# EAGLE library part TLE7250 (library can)
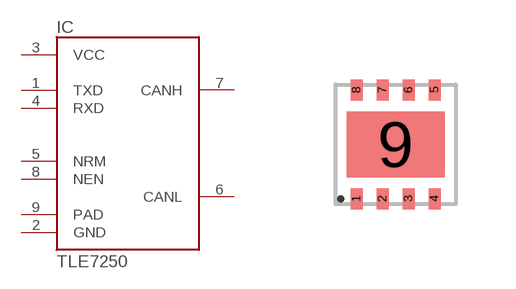
[diagram p2: symbol with the pads of TSON-8; footprint TSON-8]

Designator prefix IC

## TLE7250LE  [TSON-8]
1  TXD
2  GND
3  VCC  in
4  RXD  out
5  NRM
6  CANL
7  CANH
8  NEN  in
9  PAD

## Footprint TSON-8 (pad centres in mm)
smd 0.3 x 0.525: 1 -0.975,-1.363; 2 -0.325,-1.363; 3 0.325,-1.363; 4 0.975,-1.363; 5 0.975,1.363; 6 0.325,1.363; 7 -0.325,1.363; 8 -0.975,1.363
smd 2.45 x 1.65: 9 0,0